# Altium schematic symbol library 0.4 - 三极管.SchLib: 16 symbols
Pins are listed as number, name and electrical type; pins without a type are passive.

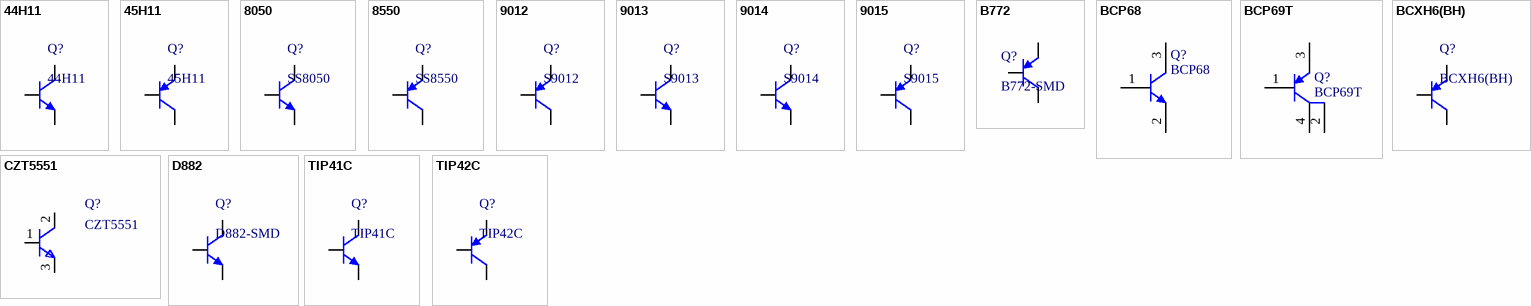
[diagram p0: symbols 44H11 to TIP42C]

## 44H11
designator Q?
互补功率-NPN型; BOM名称: 互补功率-NPN型
footprint TO252 (252晶体管)
footprint TO251A (251，3脚晶体管)
footprint TO251B (251，3脚晶体管)
pins: 1 B, 2 C, 3 E

## 45H11
designator Q?
互补功率-PNP型; BOM名称: 互补功率-PNP型
footprint TO252 (252晶体管)
footprint TO251A (251，3脚晶体管)
footprint TO251B (251，3脚晶体管)
pins: 1 B, 2 C, 3 E

## 8050
designator Q?, comment SS8050
高频放大-NPN型; BOM名称: 高频放大-NPN型
footprint TO92A (92晶体管)
footprint TO92B (92晶体管)
footprint SOT23-3L (3x1.3x1mm(长宽高)    封装库来自淘宝卖家 ID：黄晶宝石)
footprint SOT23-3M (3x1.3x1mm(长宽高)    封装库来自淘宝卖家 ID：黄晶宝石)
footprint SOT23-3N (3x1.3x1mm(长宽高)    封装库来自淘宝卖家 ID：黄晶宝石)
pins: 1 E, 2 B, 3 C

## 8550
designator Q?, comment SS8550
高频放大-PNP型; BOM名称: 高频放大-PNP型
footprint TO92A (92晶体管)
footprint TO92B (92晶体管)
footprint SOT23-3L (3x1.3x1mm(长宽高)    封装库来自淘宝卖家 ID：黄晶宝石)
footprint SOT23-3M (3x1.3x1mm(长宽高)    封装库来自淘宝卖家 ID：黄晶宝石)
footprint SOT23-3N (3x1.3x1mm(长宽高)    封装库来自淘宝卖家 ID：黄晶宝石)
pins: 1 E, 2 B, 3 C

## 9012
designator Q?, comment S9012
低频放大-PNP型; BOM名称: 低频放大-PNP型
footprint TO92A (92晶体管)
footprint TO92B (92晶体管)
footprint SOT23-3L (3x1.3x1mm(长宽高)    封装库来自淘宝卖家 ID：黄晶宝石)
footprint SOT23-3M (3x1.3x1mm(长宽高)    封装库来自淘宝卖家 ID：黄晶宝石)
footprint SOT23-3N (3x1.3x1mm(长宽高)    封装库来自淘宝卖家 ID：黄晶宝石)
pins: 1 E, 2 B, 3 C

## 9013
designator Q?, comment S9013
低频放大-NPN型; BOM名称: 低频放大-NPN型
footprint TO92A (92晶体管)
footprint TO92B (92晶体管)
footprint SOT23-3L (3x1.3x1mm(长宽高)    封装库来自淘宝卖家 ID：黄晶宝石)
footprint SOT23-3M (3x1.3x1mm(长宽高)    封装库来自淘宝卖家 ID：黄晶宝石)
footprint SOT23-3N (3x1.3x1mm(长宽高)    封装库来自淘宝卖家 ID：黄晶宝石)
pins: 1 E, 2 B, 3 C

## 9014
designator Q?, comment S9014
低噪放大-NPN型; BOM名称: 低噪放大-NPN型
footprint SOT23-3N (3x1.3x1mm(长宽高))
footprint SOT23-3L (3x1.3x1mm(长宽高))
footprint SOT23-3M (3x1.3x1mm(长宽高))
footprint TO92A (92晶体管  封装库来自淘宝卖家 ID：黄晶宝石)
footprint TO92B (92晶体管)
pins: 1 B, 2 E, 3 C

## 9015
designator Q?, comment S9015
低噪放大-PNP型; BOM名称: 低噪放大-PNP型
footprint SOT23-3N (3x1.3x1mm(长宽高))
footprint SOT23-3L (3x1.3x1mm(长宽高))
footprint SOT23-3M (3x1.3x1mm(长宽高))
footprint TO92A (92晶体管  封装库来自淘宝卖家 ID：黄晶宝石)
footprint TO92B (92晶体管)
pins: 1 B, 2 E, 3 C

## B772
designator Q?, comment B772-SMD
音频功放-PNP型; BOM名称: 音频功放-PNP型
footprint SOT89_N (4.6x4.3x1.6mm(长宽高))
footprint SOT89_M (4.6x4.3x1.6mm(长宽高))
footprint SOT89_L (4.6x4.3x1.6mm(长宽高))
footprint TO126 (126晶体管  封装库来自淘宝卖家 ID：黄晶宝石)
pins: 1 B, 2 C, 3 E

## BCP68
designator Q?
NPN三极管; ComponentLink1Description: Manufacturer Link; ComponentLink1URL: http://www.semiconductors.philips.com/; ComponentLink2Description: Datasheet; ComponentLink2URL: http://www.semiconductors.philips.com/acrobat/datasheets/BCP68_4.pdf
footprint SOT-23 (普通?)
pins: 1 B, 2 E, 3 C

## BCP69T
designator Q?
PNP三极管; ComponentLink1Description: Manufacturer Link; ComponentLink1URL: http://www.fairchildsemi.com/; ComponentLink2Description: Datasheet; ComponentLink2URL: http://www.fairchildsemi.com/ds/2N%2F2N3906.pdf
footprint SOT-223 (ASM1117 -3.3V)
pins: 1 B, 2 C, 3 E, 4

## BCXH6(BH)
designator Q?
NPN型三极管; BOM名称: NPN型三极管
footprint SOT89_N (4.6x4.3x1.6mm(长宽高))
footprint SOT89_L (4.6x4.3x1.6mm(长宽高))
footprint SOT89_M (4.6x4.3x1.6mm(长宽高))
pins: 1 B, 2 C, 3 E

## CZT5551
designator Q?
NPN三极管
footprint SOT-223 (封装库来自淘宝卖家 ID：黄晶宝石)
pins: 1 B, 2 C, 3 E

## D882
designator Q?, comment D882-SMD
音频功放-NPN型; BOM名称: 音频功放-NPN型
footprint SOT89_N (4.6x4.3x1.6mm(长宽高))
footprint SOT89_L (4.6x4.3x1.6mm(长宽高))
footprint SOT89_M (4.6x4.3x1.6mm(长宽高))
footprint TO252 (252晶体管)
footprint TO126 (126晶体管  封装库来自淘宝卖家 ID：黄晶宝石)
pins: 1 B, 2 C, 3 E

## TIP41C
designator Q?
互补功率-NPN型; BOM名称: 互补功率-NPN型
footprint TO220A (220，3脚晶体管)
footprint TO220B (220，3脚晶体管)
footprint TO220C (220，3脚晶体管)
pins: 1 B, 2 C, 3 E

## TIP42C
designator Q?
互补功率-PNP型; BOM名称: 互补功率-PNP型
footprint TO220A (220，3脚晶体管)
footprint TO220B (220，3脚晶体管)
footprint TO220C (220，3脚晶体管)
pins: 1 B, 2 C, 3 E